# EAGLE library part SPARKFUN-BOB-WS2801 (library GW-devices)
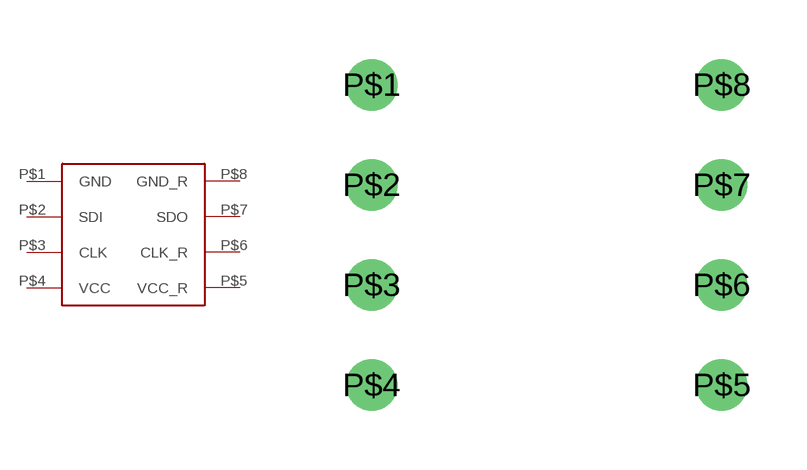
[diagram p46: symbol with the pads of SPARKFUN-BOB-WS2801; footprint SPARKFUN-BOB-WS2801]

Designator prefix -

## SPARKFUN-BOB-WS2801  [SPARKFUN-BOB-WS2801]
P$1  GND
P$2  SDI
P$3  CLK
P$4  VCC
P$5  VCC_R
P$6  CLK_R
P$7  SDO
P$8  GND_R

## Footprint SPARKFUN-BOB-WS2801 (pad centres in mm)
drill 0.8: P$1 -3.81,3.81; P$2 -3.81,1.27; P$3 -3.81,-1.27; P$4 -3.81,-3.81; P$5 5.08,-3.81; P$6 5.08,-1.27; P$7 5.08,1.27; P$8 5.08,3.81